# Altium footprint library Mechanical.PcbLib: 24 footprints (part 1 of 2)
Each footprint in its own frame and in the unit in brackets; x right, y up, seen from the top. Pads: shape width x height; smd on the part's side, far side on the other; paste and mask are expansions set on the pad; w line width, h text height; cw(c..) or ccw(c..) is an arc to the next point about the centre after c.
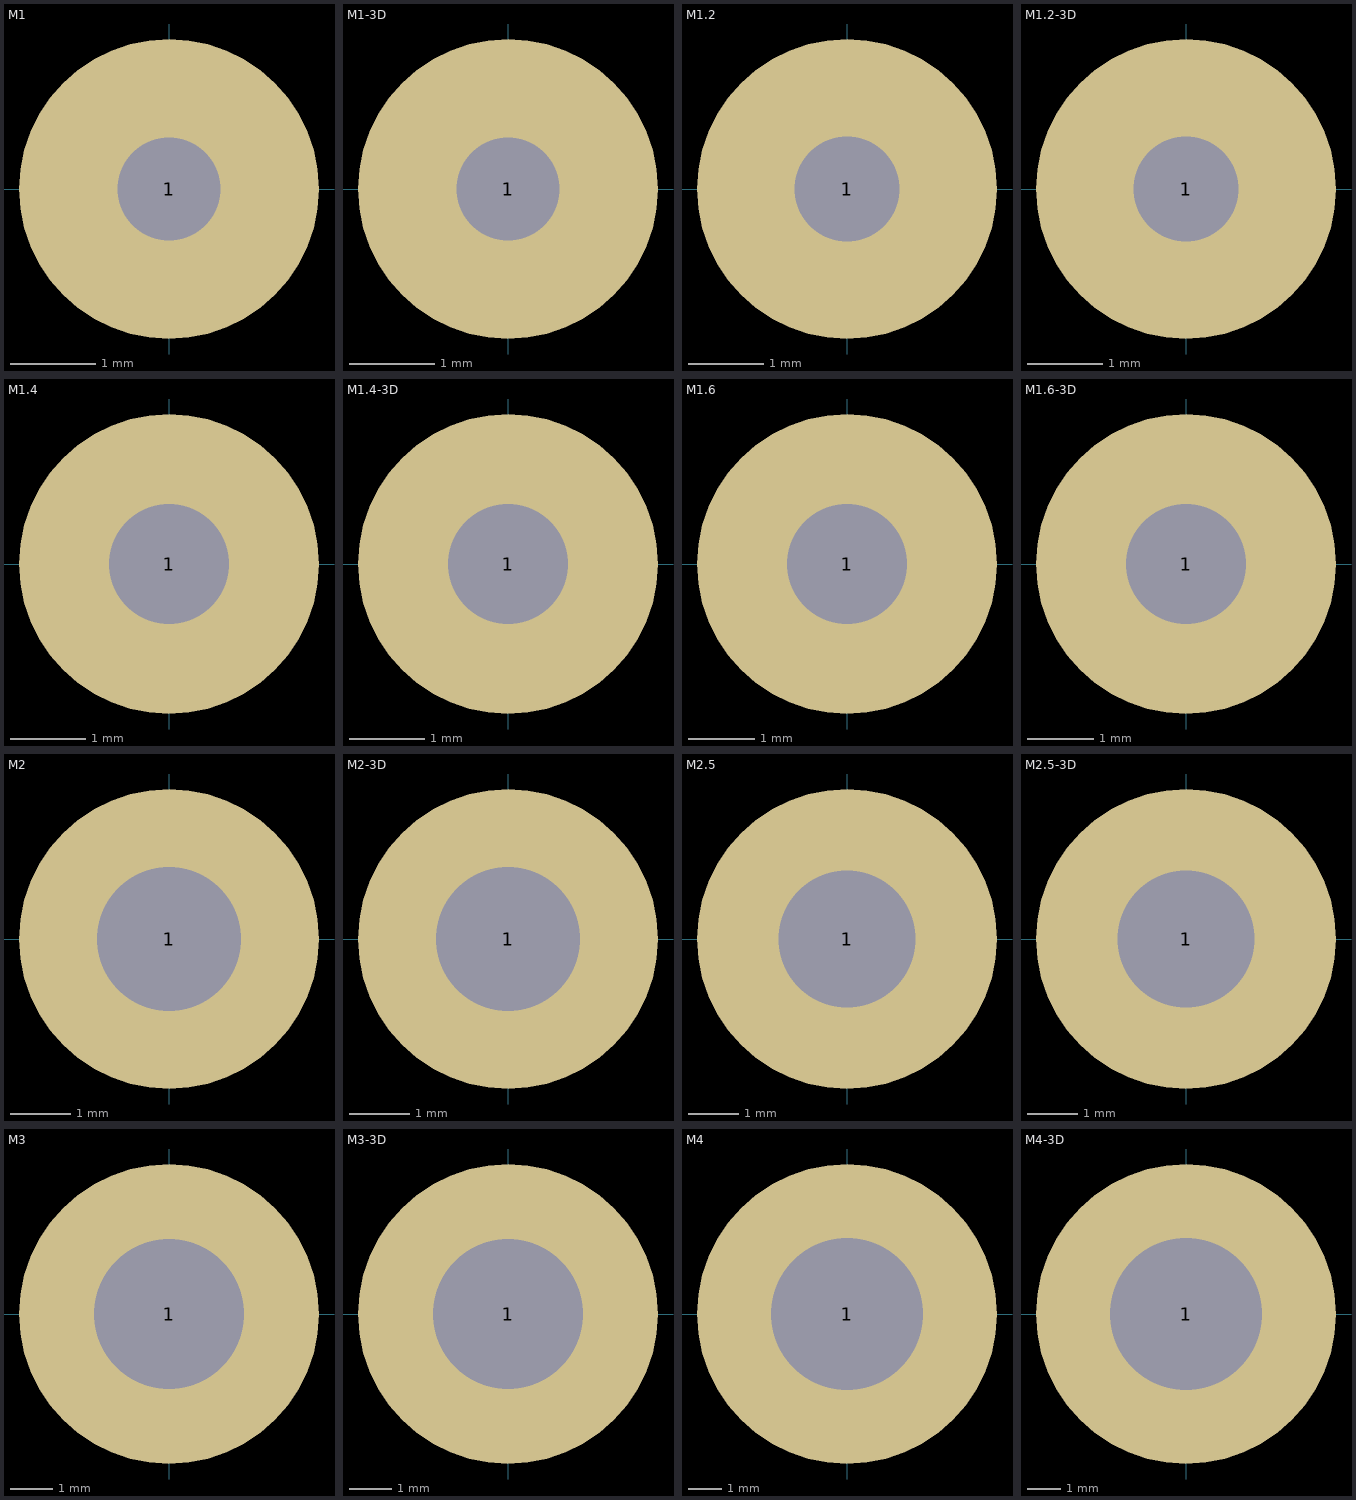
[diagram p0: the footprints below, top view; thin cyan lines are the x and y axes]

## M1 [mm]
pads (1):
  round 3.5 hole 1.2: 1(0,0)

## M1-3D [mm]
pads (1):
  round 3.5 hole 1.2: 1(0,0)
3D body "Screw M1.step": height 4.5, standoff -5.5, extent -1.25,-1.435 1.25,1.435
3D body "Nut M1.step": height 2, standoff 0, extent -1.246,-1.423 1.258,1.448

## M1.2 [mm]
pads (1):
  round 4 hole 1.4: 1(0,0)

## M1.2-3D [mm]
pads (1):
  round 4 hole 1.4: 1(0,0)
3D body "Nut M1.2.step": height 2, standoff 0, extent -1.504,-1.694 1.496,1.738
3D body "Screw M1.2.step": height 4.5, standoff -5.5, extent -1.498,-1.709 1.502,1.723

## M1.4 [mm]
pads (1):
  round 4 hole 1.6: 1(0,0)

## M1.4-3D [mm]
pads (1):
  round 4 hole 1.6: 1(0,0)
3D body "Screw M1.4.step": height 4.5, standoff -5.5, extent -1.511,-1.692 1.489,1.74
3D body "Nut M1.4.step": height 2, standoff 0, extent -1.531,-1.705 1.469,1.727

## M1.6 [mm]
pads (1):
  round 4.5 hole 1.8: 1(0,0)

## M1.6-3D [mm]
pads (1):
  round 4.5 hole 1.8: 1(0,0)
3D body "Nut M1.6.step": height 2, standoff 0, extent -1.632,-1.819 1.571,1.844
3D body "Screw M1.6.step": height 4.5, standoff -5.5, extent -1.616,-1.817 1.587,1.846

## M2 [mm]
pads (1):
  round 5 hole 2.4: 1(0,0)

## M2-3D [mm]
pads (1):
  round 5 hole 2.4: 1(0,0)
3D body "Nut M2.step": height 2, standoff 0, extent -2,-2.293 2,2.293
3D body "Screw M2.step": height 4.5, standoff -5.5, extent -2,-2.293 2,2.293

## M2.5 [mm]
pads (1):
  round 6 hole 2.75: 1(0,0)

## M2.5-3D [mm]
pads (1):
  round 6 hole 2.75: 1(0,0)
3D body "Nut M2.5.step": height 2, standoff 0, extent -2.5,-2.871 2.5,2.871
3D body "Screw M2.5.step": height 4.5, standoff -5.5, extent -2.5,-2.871 2.5,2.871

## M3 [mm]
pads (1):
  round 7 hole 3.5: 1(0,0)

## M3-3D [mm]
pads (1):
  round 7 hole 3.5: 1(0,0)
3D body "Screw M3.step": height 4.5, standoff -5.5, extent -2.751,-3.159 2.751,3.159
3D body "Nut M3.step": height 2, standoff 0, extent -2.751,-3.159 2.751,3.159

## M4 [mm]
pads (1):
  round 9 hole 4.55: 1(0,0)

## M4-3D [mm]
pads (1):
  round 9 hole 4.55: 1(0,0)
3D body "Screw M4.step": height 9.5, standoff -7.5, extent -3.5,-4.025 3.5,4.025
3D body "Nut M4.step": height 4, standoff 0, extent -3.5,-4.025 3.5,4.025